# EAGLE library part AD8099 (library ds_ic_opa)
Ultralow Distortion, High Speed, 0.95 nV/√Hz Voltage Noise Op Amp
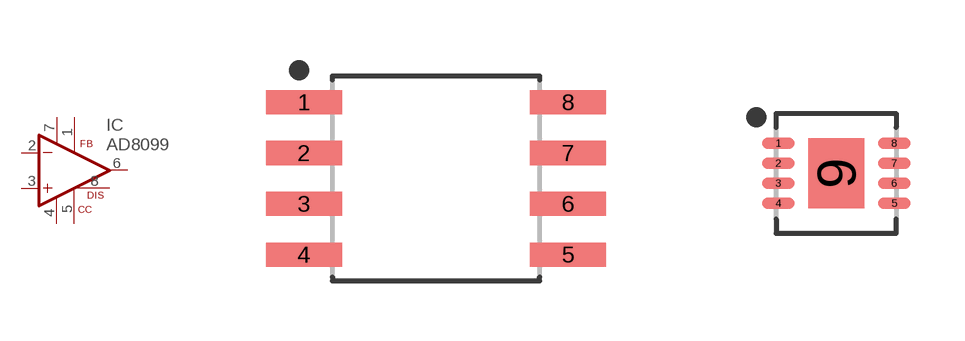
[diagram p14: symbol with the pads of SOIC127P770X170-8N; footprints SOIC127P770X170-8N, SON50P300X300X75-9T140X174N]

Designator prefix IC

## AD8099RDZ  [SOIC127P770X170-8N]
1  FB
2  -IN  in
3  +IN  in
4  V-  pwr
5  CC
6  OUT  out
7  V+  pwr
8  DIS

## AD8099CPZ  [SON50P300X300X75-9T140X174N]
1  DIS
2  FB
3  -IN  in
4  +IN  in
5  V-  pwr
6  CC
7  OUT  out
8  V+  pwr

## Footprint SOIC127P770X170-8N (pad centres in mm)
8-SOIC, 1.27 mm pitch, 7.70 mm span, 5.13 X 5.18 X 1.70 mm body 8-pin SOIC package with 1.27 mm pitch, 7.70 mm span with body size 5.13 X 5.18 X 1.70 mm
smd 1.901 x 0.602: 1 -3.305,1.905; 2 -3.305,0.635; 3 -3.305,-0.635; 4 -3.305,-1.905; 5 3.305,-1.905; 6 3.305,-0.635; 7 3.305,0.635; 8 3.305,1.905

## Footprint SON50P300X300X75-9T140X174N (pad centres in mm)
8-SON (DFN), 0.50 mm pitch, 3.00 X 3.00 X 0.75 mm body, 1.74 X 1.40 mm thermal pad 8-pin SON (DFN) package with 0.50 mm pitch with body size 3.00 X 3.00 X 0.75 mm and thermal pad size 1.74 X 1.40 mm
smd 0.812 x 0.282: 1 -1.45,0.75; 2 -1.45,0.25; 3 -1.45,-0.25; 4 -1.45,-0.75; 5 1.45,-0.75; 6 1.45,-0.25; 7 1.45,0.25; 8 1.45,0.75
smd 1.4 x 1.74: 9 0,0